# Altium footprint library GRIx4.PcbLib: 22 footprints (part 2 of 2)
Each footprint in its own frame and in the unit in brackets; x right, y up, seen from the top. Pads: shape width x height; smd on the part's side, far side on the other; paste and mask are expansions set on the pad; w line width, h text height; cw(c..) or ccw(c..) is an arc to the next point about the centre after c.
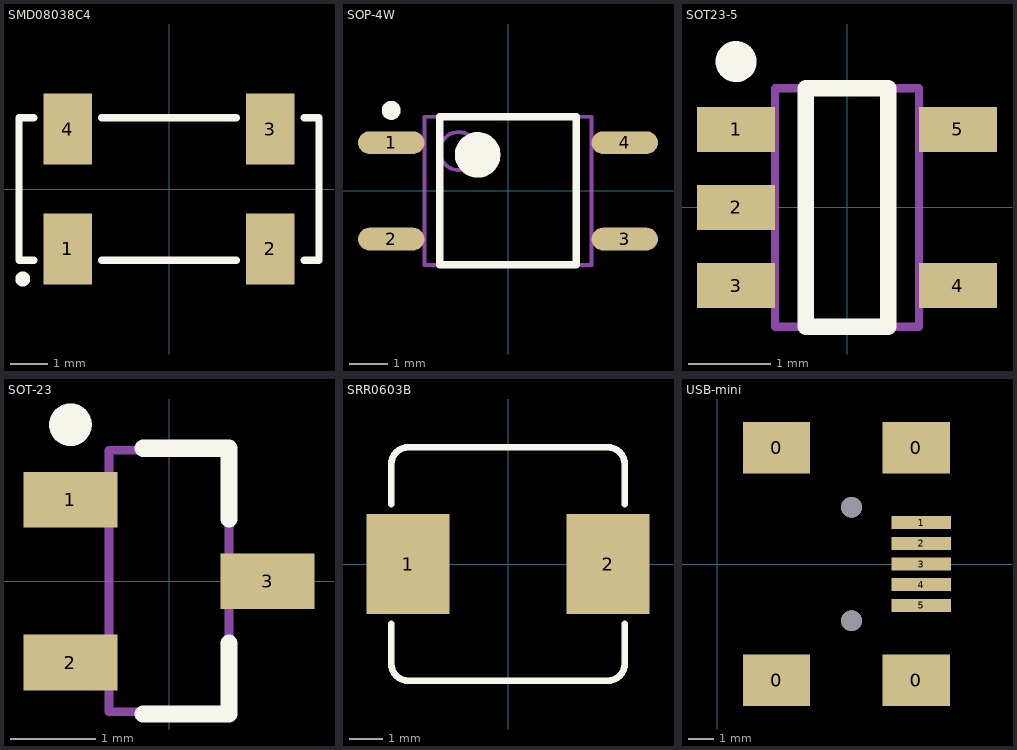
[diagram p1: the footprints below, top view; thin cyan lines are the x and y axes]

## SMD08038C4 [mm]
pads (4):
  rect 1.3x1.9 smd: 1(-2.7,-1.6) 2(2.7,-1.6) 3(2.7,1.6) 4(-2.7,1.6)
Top Overlay:
  circle w0.2: c-3.9,-2.4 r0.1
  lines w0.2: -3.6,-1.9 -4,-1.9 -4,1.9 -3.6,1.9 ; -1.8,-1.9 1.8,-1.9 ; -1.8,1.9 1.8,1.9 ; 3.6,-1.9 4,-1.9 4,1.9 3.6,1.9
3D body: height 1, standoff 0.01, extent -2.95,1.9 -2.45,2.1
3D body: height 2.5, standoff 0.01, extent -4,-1.9 4,1.9
3D body: height 1, standoff 0.01, extent -2.95,-2.1 -2.45,-1.9
3D body: height 1, standoff 0.01, extent 2.45,-2.1 2.95,-1.9
3D body: height 1, standoff 0.01, extent 2.45,1.9 2.95,2.1

## SOP-4W [mm]
pads (4):
  oval 1.75x0.6 smd: 1(-3.075,1.27) 2(-3.075,-1.27) 3(3.075,-1.27) 4(3.075,1.27)
Top Overlay:
  circle w0.6: c-0.8,0.95 r0.3
  circle w0.25: c-3.075,2.12 r0.125
  lines w0.2: -1.8,-1.95 1.8,-1.95 1.8,1.95 -1.8,1.95 -1.8,-1.95
Mechanical 13:
  circle w0.1: c-1.3,1.05 r0.5
  lines w0.1: -2.2,-1.95 2.2,-1.95 2.2,1.95 -2.2,1.95 -2.2,-1.95
3D body: height 2, standoff 0.01, extent -2.2,-1.95 2.2,1.95

## SOT23-5 [mm]
pads (5):
  rect 0.95x0.55 smd: 1(-1.35,0.95) 2(-1.35,0) 3(-1.35,-0.95) 4(1.35,-0.95) 5(1.35,0.95)
Top Overlay:
  circle w0.25: c-1.35,1.775 r0.125
  lines w0.2: -0.5,-1.45 -0.5,1.45 0.5,1.45 0.5,-1.45 -0.5,-1.45
Mechanical 13:
  lines w0.1: -0.875,-1.45 0.875,-1.45 0.875,1.45 -0.875,1.45 -0.875,-1.45
3D body: height 0.9, standoff 0.01, extent -0.875,-1.45 0.875,1.45

## SOT-23 [mm]
pads (3):
  rect 1.1x0.65 smd: 1(-1.15,0.95) 2(-1.15,-0.95) 3(1.15,0)
Top Overlay:
  circle w0.25: c-1.15,1.825 r0.125
  lines w0.2: -0.3,-1.55 0.7,-1.55 0.7,-0.725 ; -0.3,1.55 0.7,1.55 0.7,0.725
Mechanical 13:
  lines w0.1: -0.7,-1.525 -0.7,1.525 0.7,1.525 0.7,-1.525 -0.7,-1.525
3D body: height 1.1, standoff 0.1, extent -0.7,-1.525 0.7,1.525

## SRR0603B [mm]
pads (2):
  rect 2.5x3 smd: 1(-3,0) 2(3,0)
Top Overlay:
  lines w0.2: -3.5,-1.8 -3.5,-3 ccw(c-3,-3) -3,-3.5 3,-3.5 ccw(c3,-3) 3.5,-3 3.5,-1.8 ; -3.5,1.8 -3.5,3 cw(c-3,3) -3,3.5 3,3.5 cw(c3,3) 3.5,3 3.5,1.8
3D body: height 3.3, standoff 0.01, extent -3.5,-3.5 3.5,3.5
3D body: height 1, standoff 0.01, extent -3.4,-1 -3.2,1
3D body: height 1, standoff 0.01, extent 3.2,-1 3.4,1

## USB-mini [mm]
pads (9):
  rect 2.6x2 smd: 0(2.3,-4.5) 0(2.3,4.5) 0(7.7,-4.5) 0(7.7,4.5)
  rect 2.3x0.5 smd: 1(7.9,1.6) 2(7.9,0.8) 3(7.9,0) 4(7.9,-0.8) 5(7.9,-1.6)
via 5.2,-2.2 diameter 0.8 hole 0.8
via 5.2,2.2 diameter 0.8 hole 0.8
3D body: height 4.14, standoff -0.95, extent -0.7,-4.95 8.5,4.95